# Altium schematic symbol library SCH - COMPARATOR - MICROCHIP MCP6547T-I SN.SCHLIB: 1 symbol
Pins are listed as number, name and electrical type; pins without a type are passive.

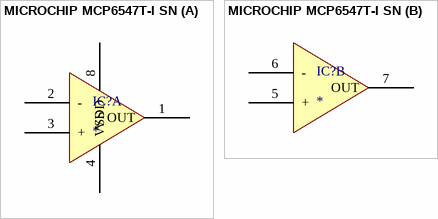
[diagram p0: symbol MICROCHIP MCP6547T-I SN]

## MICROCHIP MCP6547T-I SN
designator IC?
part A pins: 1 OUT, 2 -, 3 +, 4 VSS (power), 8 VDD (power)
part B pins: 5 +, 6 -, 7 OUT